# Altium schematic symbol library STMicro_PowerManagement.SchLib: 4 symbols
Pins are listed as number, name and electrical type; pins without a type are passive.

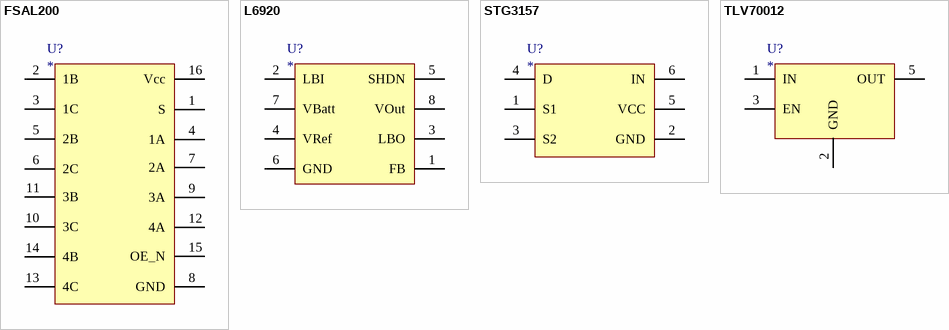
[diagram p0: symbols FSAL200 to TLV70012]

## FSAL200
designator U?
ST Quad Bi-Directional Logic Switch
pins: 1 S, 2 1B, 3 1C, 4 1A, 5 2B, 6 2C, 7 2A, 8 GND, 9 3A, 10 3C, 11 3B, 12 4A, 13 4C, 14 4B, 15 OE_N, 16 Vcc

## L6920
designator U?
ST Micro L6920 Synchronous Step-Up DC-DC Converter
pins: 1 FB, 2 LBI, 3 LBO, 4 VRef, 5 SHDN, 6 GND, 7 VBatt, 8 VOut

## STG3157
designator U?
ST Micro STG3157 Low Voltage SPDT Logic Switch
pins: 1 S1, 2 GND, 3 S2, 4 D, 5 VCC, 6 IN

## TLV70012
designator U?
Texas Instruments 3.3V VReg (5V Input)
pins: 1 IN, 2 GND, 3 EN, 4 NC hidden, 5 OUT